# EAGLE library part GAL22V10 (library GameCube)
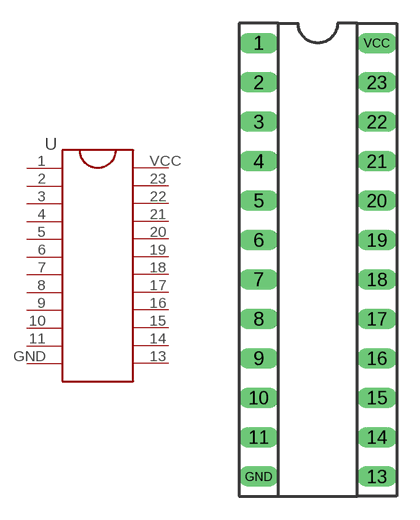
[diagram p0: symbol with the pads of 24-PIN-DIP; footprint 24-PIN-DIP]

Designator prefix -

## GAL22V10  [24-PIN-DIP]
1  1
2  2
3  3
4  4
5  5
6  6
7  7
8  8
9  9
10  10
11  11
13  13
14  14
15  15
16  16
17  17
18  18
19  19
20  20
21  21
22  22
23  23
GND  GND
VCC  VCC

## Footprint 24-PIN-DIP (pad centres in mm)
drill 0.8 long: 1 -3.81,13.97; 2 -3.81,11.43; 3 -3.81,8.89; 4 -3.81,6.35; 5 -3.81,3.81; 6 -3.81,1.27; 7 -3.81,-1.27; 8 -3.81,-3.81; 9 -3.81,-6.35; 10 -3.81,-8.89; 11 -3.81,-11.43; 13 3.81,-13.97; 14 3.81,-11.43; 15 3.81,-8.89; 16 3.81,-6.35; 17 3.81,-3.81; 18 3.81,-1.27; 19 3.81,1.27; 20 3.81,3.81; 21 3.81,6.35; 22 3.81,8.89; 23 3.81,11.43; GND -3.81,-13.97; VCC 3.81,13.97